# Altium schematic symbol library Schlib1.SCHLIB: 2 symbols
Pins are listed as number, name and electrical type; pins without a type are passive.

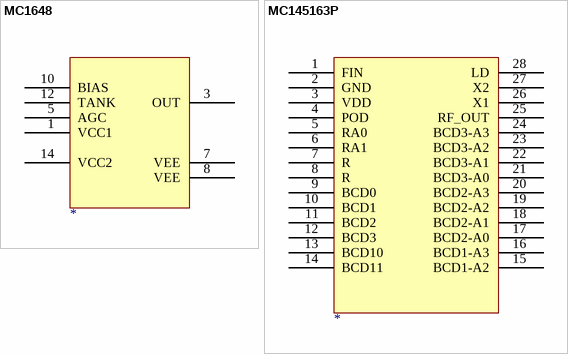
[diagram p0: symbols MC1648 to MC145163P]

## MC1648
designator ?
pins: 1 VCC1, 3 OUT, 5 AGC, 7 VEE, 8 VEE, 10 BIAS, 12 TANK, 14 VCC2

## MC145163P
designator ?
pins: 1 FIN, 2 GND, 3 VDD, 4 POD, 5 RA0, 6 RA1, 7 R, 8 R, 9 BCD0, 10 BCD1, 11 BCD2, 12 BCD3, 13 BCD10, 14 BCD11, 15 BCD1-A2, 16 BCD1-A3, 17 BCD2-A0, 18 BCD2-A1, 19 BCD2-A2, 20 BCD2-A3, 21 BCD3-A0, 22 BCD3-A1, 23 BCD3-A2, 24 BCD3-A3, 25 RF_OUT, 26 X1, 27 X2, 28 LD